# EAGLE library part MT28EW128ABA1HPC-0SIT (library circuit_tree)
IC
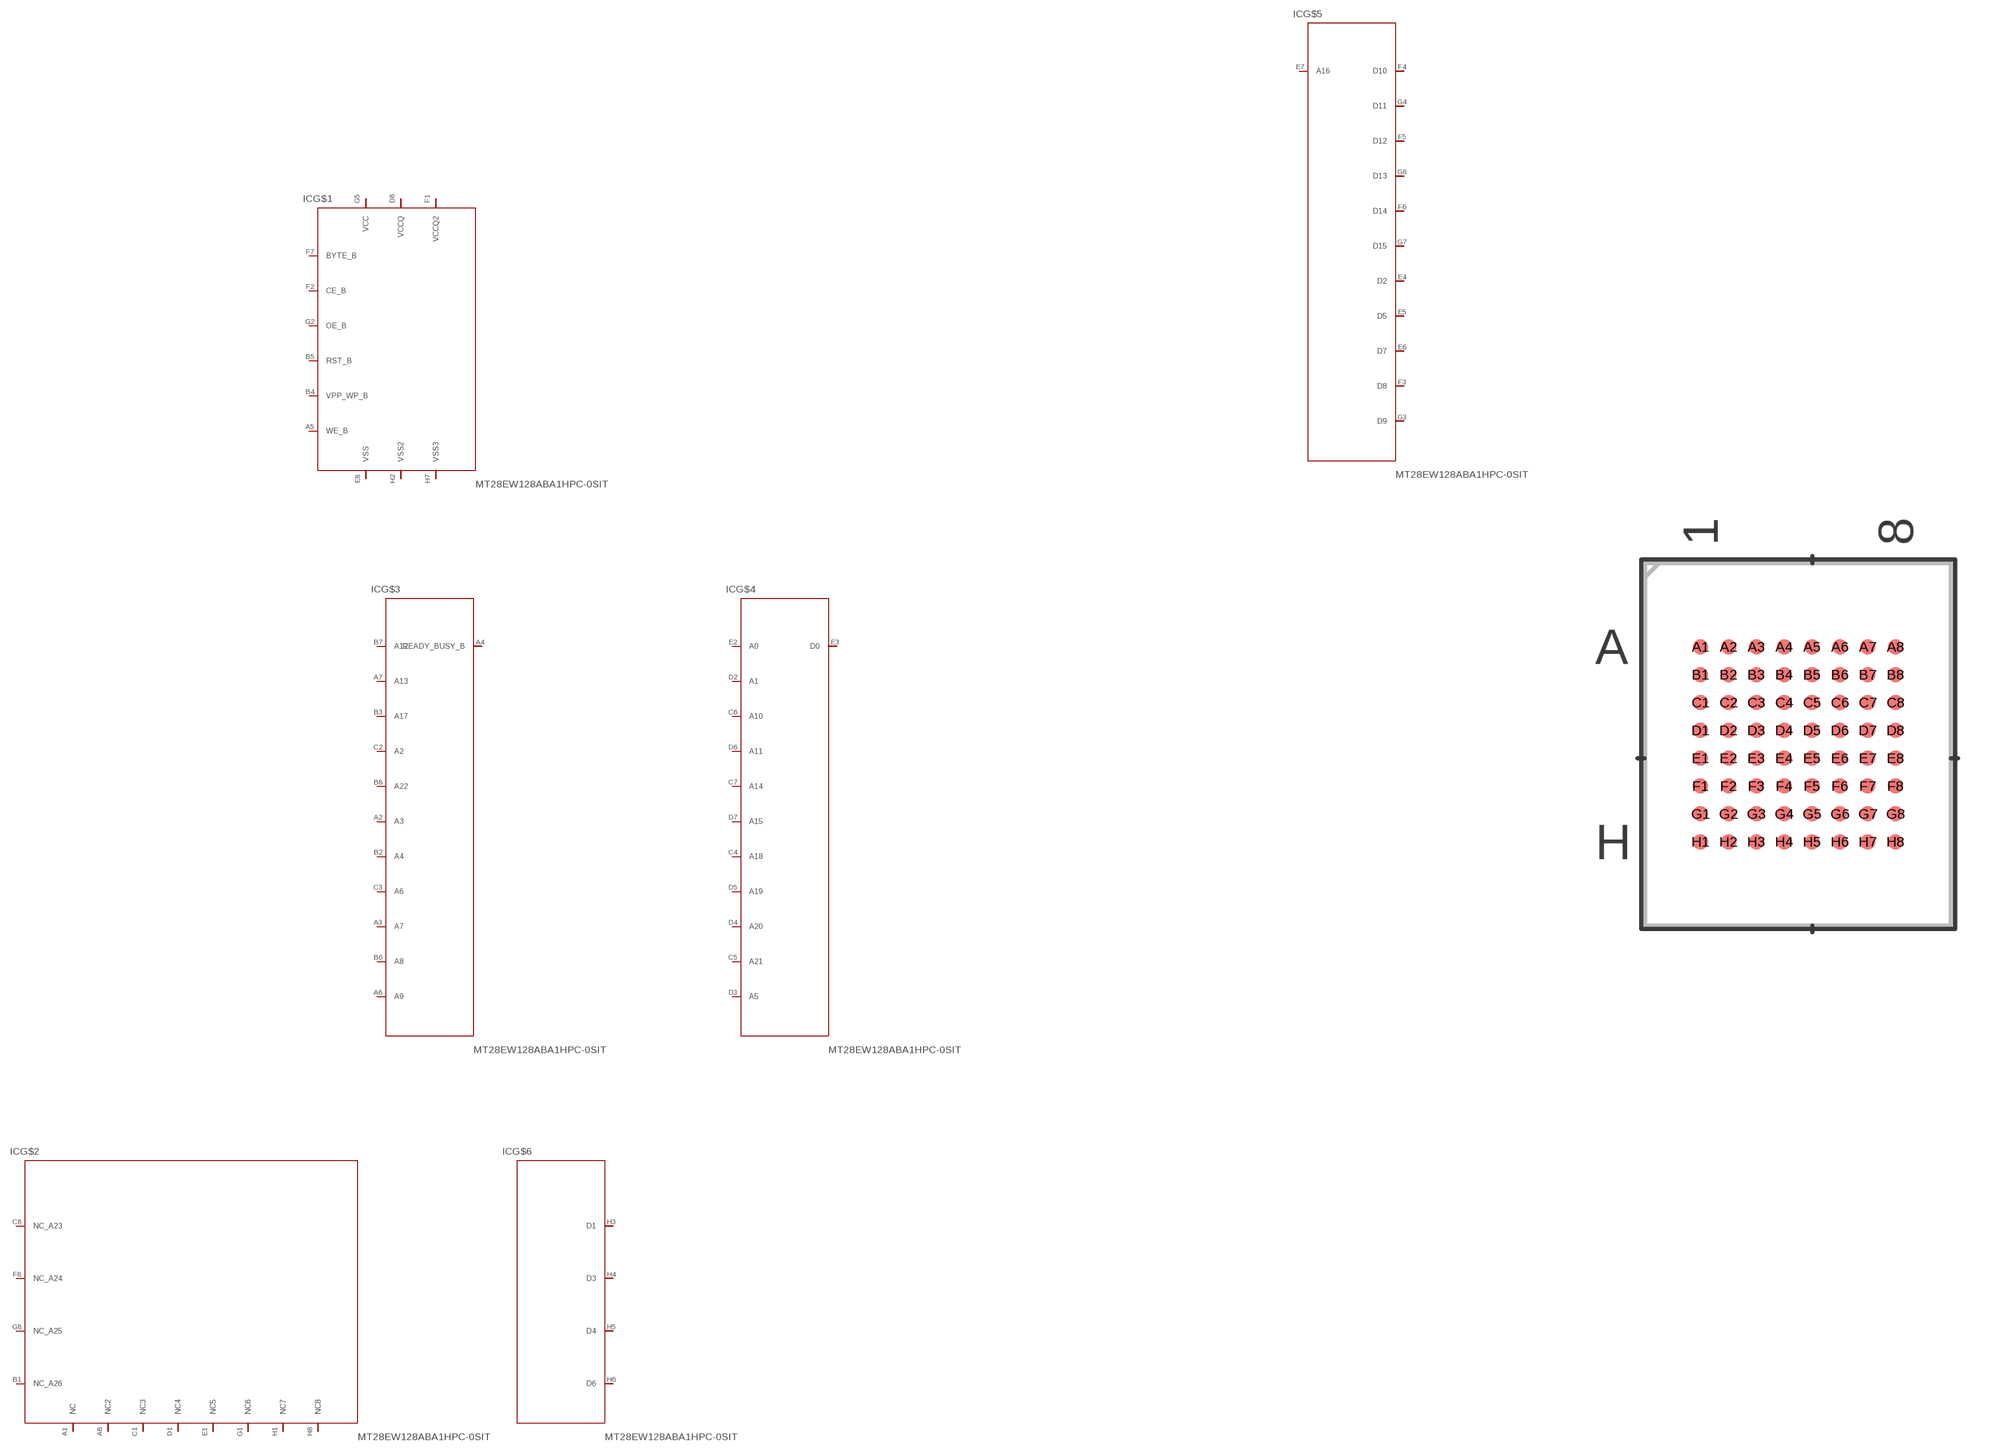
[diagram p5: symbol with the pads of LBGA-64; footprint LBGA-64]

Designator prefix IC; gates G$1=MT28EW128ABA1HPC-0SIT G$2=MT28EW128ABA1HPC-0SIT2 G$3=MT28EW128ABA1HPC-0SIT3 G$4=MT28EW128ABA1HPC-0SIT4 G$5=MT28EW128ABA1HPC-0SIT5 G$6=MT28EW128ABA1HPC-0SIT6

## MT28EW128ABA1HPC-0SIT  [LBGA-64]
A1  G$2:NC  pas
A2  G$3:A3  pas
A3  G$3:A7  pas
A4  G$3:READY_BUSY_B  pas
A5  G$1:WE_B  pas
A6  G$3:A9  pas
A7  G$3:A13  pas
A8  G$2:NC2  pas
B1  G$2:NC_A26  pas
B2  G$3:A4  pas
B3  G$3:A17  pas
B4  G$1:VPP_WP_B  pas
B5  G$1:RST_B  pas
B6  G$3:A8  pas
B7  G$3:A12  pas
B8  G$3:A22  pas
C1  G$2:NC3  pas
C2  G$3:A2  pas
C3  G$3:A6  pas
C4  G$4:A18  pas
C5  G$4:A21  pas
C6  G$4:A10  pas
C7  G$4:A14  pas
C8  G$2:NC_A23  pas
D1  G$2:NC4  pas
D2  G$4:A1  pas
D3  G$4:A5  pas
D4  G$4:A20  pas
D5  G$4:A19  pas
D6  G$4:A11  pas
D7  G$4:A15  pas
D8  G$1:VCCQ  pas
E1  G$2:NC5  pas
E2  G$4:A0  pas
E3  G$4:D0  pas
E4  G$5:D2  pas
E5  G$5:D5  pas
E6  G$5:D7  pas
E7  G$5:A16  pas
E8  G$1:VSS  pas
F1  G$1:VCCQ2  pas
F2  G$1:CE_B  pas
F3  G$5:D8  pas
F4  G$5:D10  pas
F5  G$5:D12  pas
F6  G$5:D14  pas
F7  G$1:BYTE_B  pas
F8  G$2:NC_A24  pas
G1  G$2:NC6  pas
G2  G$1:OE_B  pas
G3  G$5:D9  pas
G4  G$5:D11  pas
G5  G$1:VCC  pas
G6  G$5:D13  pas
G7  G$5:D15  pas
G8  G$2:NC_A25  pas
H1  G$2:NC7  pas
H2  G$1:VSS2  pas
H3  G$6:D1  pas
H4  G$6:D3  pas
H5  G$6:D4  pas
H6  G$6:D6  pas
H7  G$1:VSS3  pas
H8  G$2:NC8  pas

## Footprint LBGA-64 (pad centres in mm)
smd 0.559 x 0.559: A1 -3.5,3.5; A2 -2.5,3.5; A3 -1.5,3.5; A4 -0.5,3.5; A5 0.5,3.5; A6 1.5,3.5; A7 2.5,3.5; A8 3.5,3.5; B1 -3.5,2.5; B2 -2.5,2.5; B3 -1.5,2.5; B4 -0.5,2.5; B5 0.5,2.5; B6 1.5,2.5; B7 2.5,2.5; B8 3.5,2.5; C1 -3.5,1.5; C2 -2.5,1.5; C3 -1.5,1.5; C4 -0.5,1.5; C5 0.5,1.5; C6 1.5,1.5; C7 2.5,1.5; C8 3.5,1.5; D1 -3.5,0.5; D2 -2.5,0.5; D3 -1.5,0.5; D4 -0.5,0.5; D5 0.5,0.5; D6 1.5,0.5; D7 2.5,0.5; D8 3.5,0.5; E1 -3.5,-0.5; E2 -2.5,-0.5; E3 -1.5,-0.5; E4 -0.5,-0.5; E5 0.5,-0.5; E6 1.5,-0.5; E7 2.5,-0.5; E8 3.5,-0.5; F1 -3.5,-1.5; F2 -2.5,-1.5; F3 -1.5,-1.5; F4 -0.5,-1.5; F5 0.5,-1.5; F6 1.5,-1.5; F7 2.5,-1.5; F8 3.5,-1.5; G1 -3.5,-2.5; G2 -2.5,-2.5; G3 -1.5,-2.5; G4 -0.5,-2.5; G5 0.5,-2.5; G6 1.5,-2.5; G7 2.5,-2.5; G8 3.5,-2.5; H1 -3.5,-3.5; H2 -2.5,-3.5; H3 -1.5,-3.5; H4 -0.5,-3.5; H5 0.5,-3.5; H6 1.5,-3.5; H7 2.5,-3.5; H8 3.5,-3.5